# Altium footprint library Driver.PcbLib: 19 footprints (part 2 of 2)
Each footprint in its own frame and in the unit in brackets; x right, y up, seen from the top. Pads: shape width x height; smd on the part's side, far side on the other; paste and mask are expansions set on the pad; w line width, h text height; cw(c..) or ccw(c..) is an arc to the next point about the centre after c.
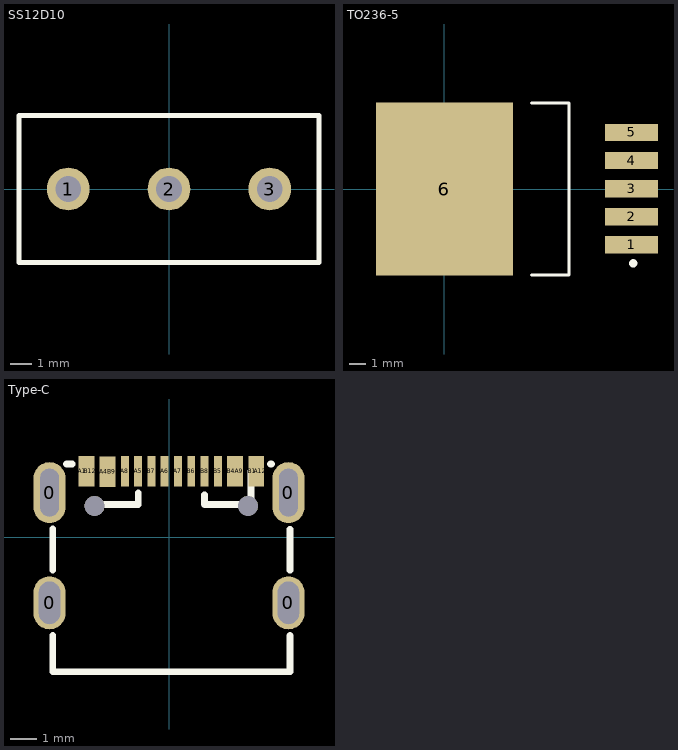
[diagram p1: the footprints below, top view; thin cyan lines are the x and y axes]

## SS12D10 [mm] "开关"
pads (3):
  round 2 hole 1.2: 1(-4.7,0) 2(0,0) 3(4.7,0)
Top Overlay:
  lines w0.254: -7,-3.429 7,-3.429 7,3.429 -7,3.429 -7,-3.429

## TO236-5 [mm]
pads (6):
  rect 3.2x1.05 smd: 1(11.324,-3.378) 2(11.324,-1.678) 3(11.324,0.022) 4(11.324,1.722) 5(11.324,3.422)
  rect 8.3x10.45 smd: 6(0,0)
Top Overlay:
  circle w0.25: c11.426,-4.496 r0.125
  lines w0.2: 5.287,-5.2 7.537,-5.2 7.537,5.2 5.287,5.2

## Type-C [mm]
pads (22):
  oval 1.2x2 hole 0.8 slot 1.6 at 90 deg: 0(-4.5,-2.475) 0(4.5,-2.475)
  oval 1.2x2.3 hole 0.7 slot 1.8 at 90 deg: 0(-4.5,1.675) 0(4.5,1.675)
  rect 0.3x1.15 smd: A1(-3.263,2.473) A4(-2.462,2.471) A5(-1.162,2.475) A6(-0.162,2.475) A7(0.337,2.473) A9(2.638,2.475) A12(3.438,2.475) B1(3.138,2.475) B4(2.337,2.475) B5(1.838,2.475) B6(0.838,2.475) B7(-0.663,2.473) B9(-2.162,2.471) B12(-2.963,2.473)
  rect 0.3x1.148 smd: A8(-1.663,2.475) B8(1.337,2.475)
  round 0.75 hole 0.75 unplated: ""(-2.803,1.175) ""(2.978,1.175)
Top Overlay:
  lines w0.254: -4.382,-3.698 -4.382,-5.075 4.557,-5.075 4.557,-3.704 ; -4.382,-1.252 -4.382,0.302 ; -3.856,2.75 -3.644,2.75 ; -2.912,1.225 -1.162,1.225 -1.162,1.669 ; 1.335,1.599 1.335,1.228 3.085,1.228 3.085,2.478 ; 3.819,2.75 3.856,2.75 ; 4.557,-1.246 4.557,0.296